# Altium footprint library ES_Pcb_x.PcbLib: 354 footprints (part 12 of 23)
Each footprint in its own frame and in the unit in brackets; x right, y up, seen from the top. Pads: shape width x height; smd on the part's side, far side on the other; paste and mask are expansions set on the pad; w line width, h text height; cw(c..) or ccw(c..) is an arc to the next point about the centre after c.
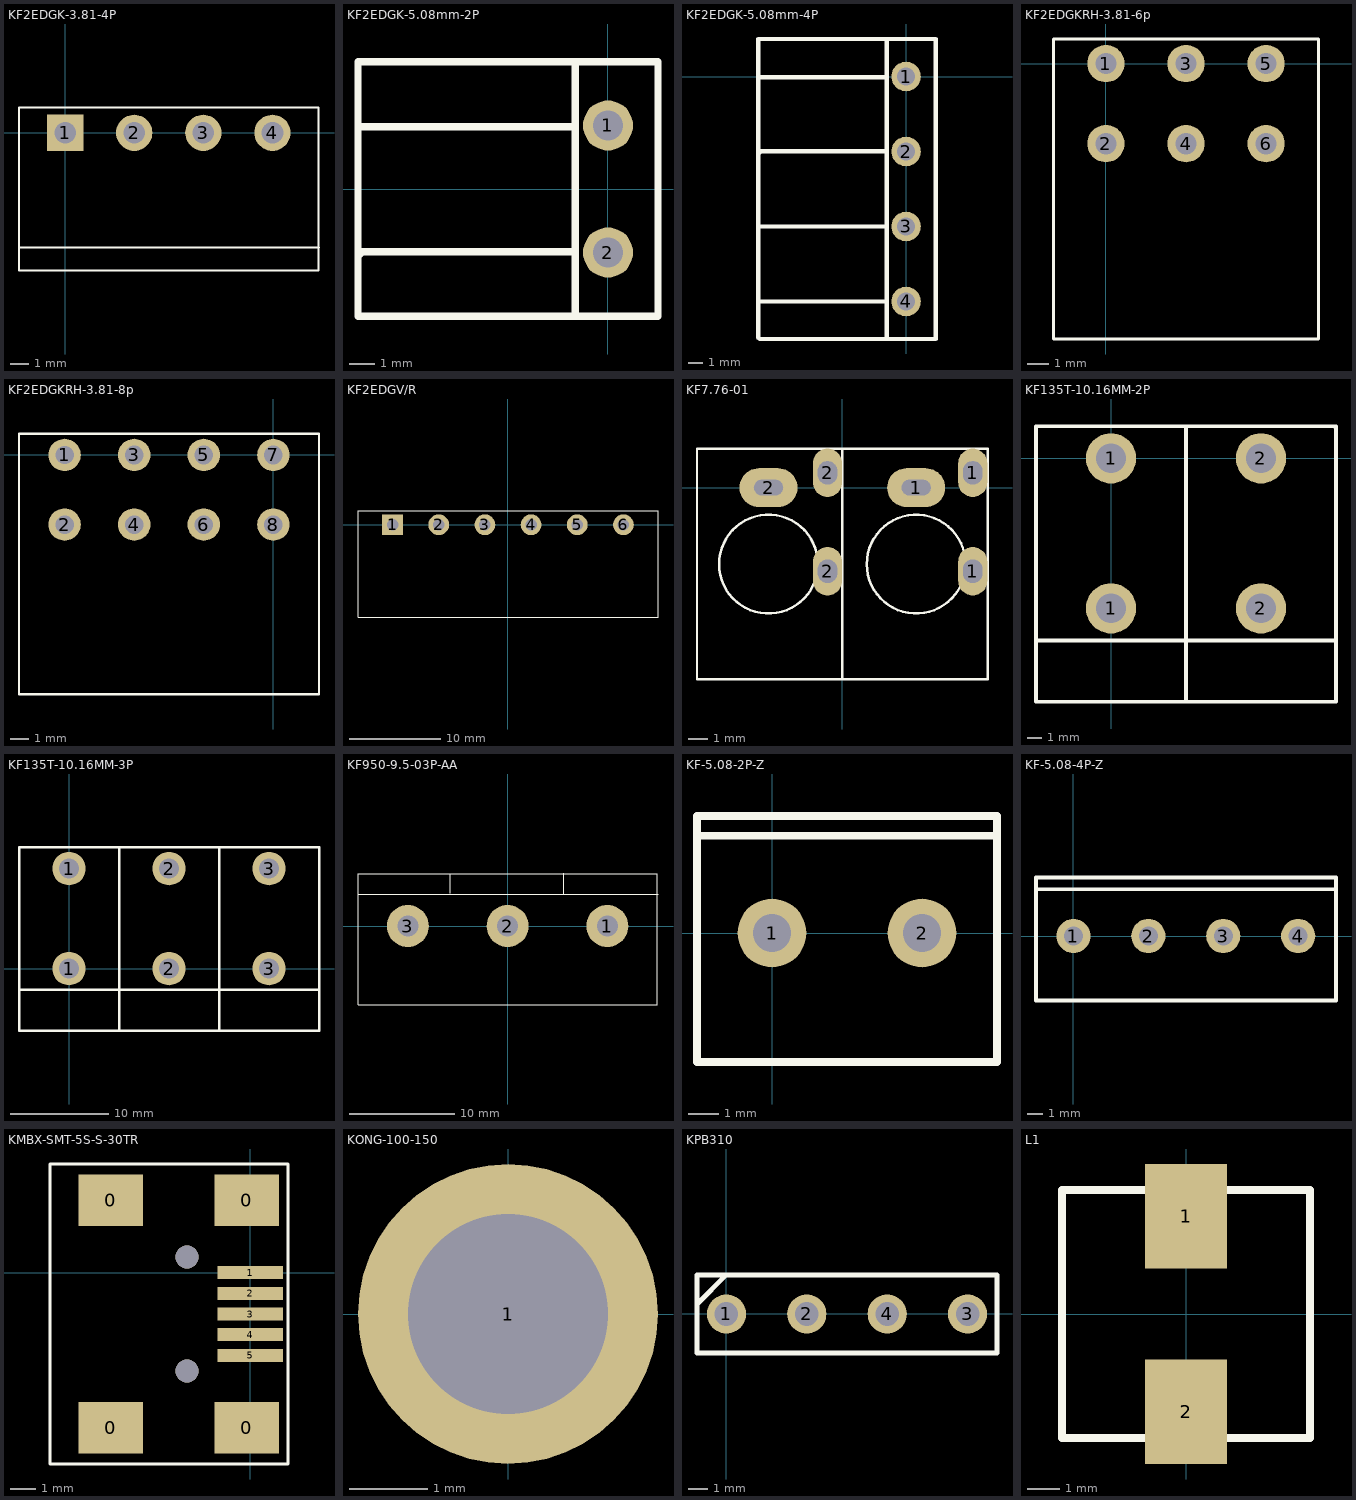
[diagram p11: the footprints below, top view; thin cyan lines are the x and y axes]

## KF2EDGK-3.81-4P [mm]
pads (4):
  rect 2x2 hole 1.2: 1(0,0)
  round 2 hole 1.2: 2(3.81,0) 3(7.62,0) 4(11.43,0)
Top Overlay:
  lines w0.127: -2.52,-6.33 14,-6.33 ; -2.545,-7.6 -2.545,1.4 13.975,1.4 13.975,-7.6 -2.545,-7.6

## KF2EDGK-5.08mm-2P [mm]
pads (2):
  round 2 hole 1.2: 1(0,2.54) 2(0,-2.54)
Top Overlay:
  lines w0.3: -10,-5.08 -10,5.08 2,5.08 2,-5.08 -9.924,-5.08 ; -10,-2.692 -9.822,-2.515 -1.302,-2.515 ; -9.913,2.464 -9.887,2.489 -1.302,2.489 ; -1.302,-5.08 -1.302,5.08

## KF2EDGK-5.08mm-4P [mm]
pads (4):
  round 2 hole 1.2: 1(0,0) 2(0,-5.08) 3(0,-10.16) 4(0,-15.24)
Top Overlay:
  lines w0.3: -10,-5.232 -9.822,-5.055 -1.302,-5.055 ; -9.975,-15.24 -1.454,-15.24 ; -9.924,-10.16 -1.404,-10.16 ; -9.913,-0.076 -9.887,-0.051 -1.302,-0.051 ; -1.302,-17.78 -1.302,2.54 ; -10,-17.704 -10,2.54 2,2.54 2,-17.78 -9.924,-17.78 -10,-17.704

## KF2EDGKRH-3.81-6p [mil]
pads (6):
  round 70 hole 39.37: 1(0,0)
  round 70 hole 40: 2(0,-150) 3(150,0) 4(150,-150) 5(300,0) 6(300,-150)
Top Overlay:
  lines w5: -98.43,-516.14 398.43,-516.14 398.43,46 -98.43,46 -98.43,-516.14

## KF2EDGKRH-3.81-8p [mil]
pads (8):
  round 70 hole 39.37: 1(-450,0)
  round 70 hole 40: 2(-450,-150) 3(-300,0) 4(-300,-150) 5(-150,0) 6(-150,-150) 7(0,0) 8(0,-150)
Top Overlay:
  lines w5: -548.43,-516.14 98.43,-516.14 98.43,46 -548.43,46 -548.43,-516.14

## KF2EDGV/R [mil]
pads (6):
  rect 90x90 hole 50: 1(-500,0)
  round 90 hole 50: 2(-300,0) 3(-100,0) 4(100,0) 5(300,0) 6(500,0)
Top Overlay:
  lines w5: -650,-400 -650,60 650,60 650,-400 -650,-400

## KF7.76-01 [mm]
pads (6):
  oval 3x2 hole 0.8 slot 1.5 at 0 deg: 1(3.81,0) 2(-3.81,0)
  oval 1.5x2.5 hole 1 slot 1.2 at 90 deg: 1(6.731,-4.318) 1(6.731,0.762) 2(-0.762,-4.318) 2(-0.762,0.762)
Top Overlay:
  circle w0.127: c3.81,-3.95 r2.55
  circle w0.127: c-3.81,-3.95 r2.55
  lines w0.127: 0,-9.9 0,2 ; -7.5,-9.9 -7.5,2 7.5,2 7.5,-9.9 -7.5,-9.9

## KF135T-10.16MM-2P [mm]
pads (4):
  round 3.4 hole 2: 1(0,-10.16) 1(0,0) 2(10.16,-10.16) 2(10.16,0)
Top Overlay:
  lines w0.254: -5.08,-12.33 15.24,-12.33 ; 5.055,2.145 5.08,2.119 5.08,-12.41 ; 5.08,-16.48 5.08,-12.33 ; 15.215,2.094 15.24,2.068 15.24,-12.305 15.24,-16.455 ; 15.24,-16.48 -5.08,-16.48 -5.08,2.17 15.24,2.17

## KF135T-10.16MM-3P [mm]
pads (6):
  round 3.4 hole 2: 1(0,0) 1(0,10.16) 2(10.16,0) 2(10.16,10.16) 3(20.32,0) 3(20.32,10.16)
Top Overlay:
  lines w0.254: -5.08,-2.17 25.4,-2.17 ; 5.055,12.305 5.08,12.279 5.08,-2.25 ; 5.08,-6.32 5.08,-2.17 ; 15.215,12.254 15.24,12.228 15.24,-2.145 15.24,-6.295 ; -5.08,-6.32 -5.08,12.33 25.4,12.33 25.4,-6.32 -5.08,-6.32

## KF950-9.5-03P-AA [mm]
pads (3):
  round 4 hole 2: 1(9.5,0) 2(0,0) 3(-9.5,0)
Top Overlay:
  lines w0.1: -14.174,3.023 14.326,3.023 ; -5.486,3.099 -5.486,4.975 ; 5.334,3.023 5.334,5.029 ; -14.25,-7.5 14.25,-7.5 14.25,5 -14.25,5 -14.25,-7.5

## KF-5.08-2P-Z [mil]
pads (2):
  round 90 hole 50: 1(0,0) 2(196.85,0)
Top Overlay:
  lines w10: -96.43,127.71 291.57,127.71 293.57,125.71 ; -98.43,-169.29 -98.43,153.54 295.28,153.54 295.28,-169.29 -98.43,-169.29

## KF-5.08-4P-Z [mil]
pads (4):
  round 90 hole 50: 1(0,0) 2(196.87,0) 3(393.72,0) 4(590.57,0)
Top Overlay:
  lines w10: -98.43,122.71 686.57,122.71 ; -98.43,-169.29 689.98,-169.29 689.98,153.54 -98.43,153.54 -98.43,-169.29

## KMBX-SMT-5S-S-30TR [mm]
pads (9):
  rect 2.5x2 smd: 0(-5.397,-6) 0(-5.397,2.8) 0(-0.147,-6) 0(-0.147,2.8)
  rect 2.54x0.5 smd: 1(0,0) 2(0,-0.8) 3(0,-1.6) 4(0,-2.4) 5(0,-3.2)
via -2.447,-3.8 diameter 0.9 hole 0.9
via -2.447,0.6 diameter 0.9 hole 0.9
Top Overlay:
  lines w0.127: -7.747,-7.4 1.453,-7.4 1.453,4.2 -7.747,4.2 -7.747,-7.4

## KONG-100-150 [mm]
pads (1):
  round 3.81 hole 2.54: 1(0,0)

## KPB310 [mm]
pads (4):
  round 2 hole 1.2: 1(0,0) 2(4.1,0) 3(12.3,0) 4(8.2,0)
Top Overlay:
  lines w0.254: -1.5,0.4 -1.5,0.5 0,2 ; -1.5,-2 13.8,-2 13.8,2 13.4,2 9.4,2 -1.5,2 -1.5,-2

## L1 [mm]
pads (2):
  rect 2.5x3.2 smd: 1(0,3) 2(0,-3)
Top Overlay:
  lines w0.254: -3.8,-3.8 3.8,-3.8 3.8,3.8 -3.8,3.8 -3.8,-3.8